# Altium schematic symbol library MC7805CD2TR4G.SchLib: 1 symbol
Pins are listed as number, name and electrical type; pins without a type are passive.

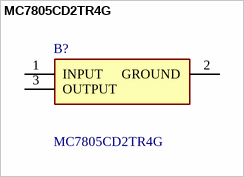
[diagram p0: symbol MC7805CD2TR4G]

## MC7805CD2TR4G
designator B?
Linear Voltage Regulator IC Positive Fixed 1 Output 1A D2PAK-3; Manufacturer_Name: onsemi; Geometry.Height: 4.826mm; Mouser Part Number: 863-MC7805CD2TR4G; Mouser Price/Stock: https://www.mouser.co.uk/ProductDetail/onsemi/MC7805CD2TR4G?qs=%252B9%2Fcbd0IE0TA2t8QN7DaSw%3D%3D; Manufacturer_Part_Number: MC7805CD2TR4G; Datasheet Link: https://www.onsemi.com/pdf/datasheet/mc7800-d.pdf
footprint MC7805CD2TR4G
pins: 1 INPUT, 2 GROUND, 3 OUTPUT